# EAGLE library part LM5575 (library Traficon)
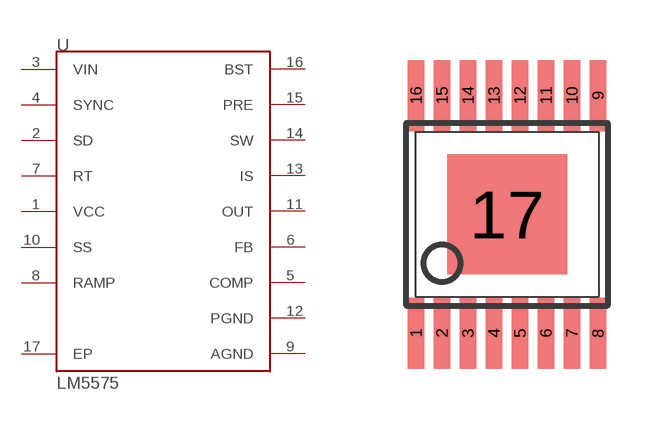
[diagram p252: symbol with the pads of TSSOP16EP; footprint TSSOP16EP]

Designator prefix U

## LM5575  [TSSOP16EP]
1  VCC
2  SD
3  VIN
4  SYNC
5  COMP
6  FB
7  RT
8  RAMP
9  AGND
10  SS
11  OUT
12  PGND
13  IS
14  SW
15  PRE
16  BST
17  EP  pas

## Footprint TSSOP16EP (pad centres in mm)
smd 0.42 x 1.78: 1 -2.275,-2.97; 2 -1.625,-2.97; 3 -0.975,-2.97; 4 -0.325,-2.97; 5 0.325,-2.97; 6 0.975,-2.97; 7 1.625,-2.97; 8 2.275,-2.97; 9 2.275,2.97; 10 1.625,2.97; 11 0.975,2.97; 12 0.325,2.97; 13 -0.325,2.97; 14 -0.975,2.97; 15 -1.625,2.97; 16 -2.275,2.97
smd 3 x 3: 17 0,0